# EAGLE library part LED_3X7-SEGMENT (library SinclairScientific)
SINGLE DIGIT NUMERIC DISPLAY 9.9mm (0.39INCH) Source: SC39-11EWA.pdf
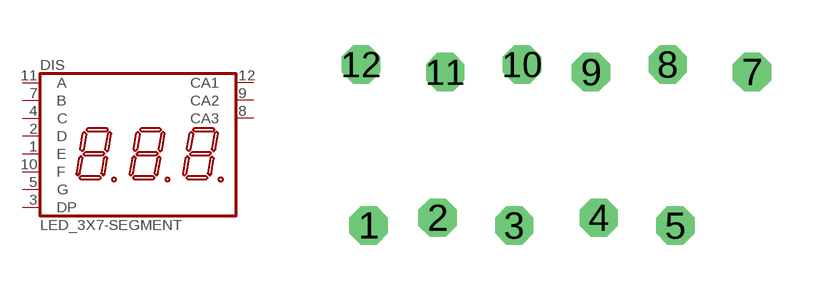
[diagram p4: symbol with the pads of 2352B; footprint 2352B]

Designator prefix DIS

## LED_3X7-SEGMENT  [2352B]
1  E  pas
2  D  pas
3  DP  pas
4  C  pas
5  G  pas
7  B  pas
8  CA3  pas
9  CA2  pas
10  F  pas
11  A  pas
12  CA1  pas

## Footprint 2352B (pad centres in mm)
LED DISPLAY 10-mm 1 character 7 segment, decimal point right
drill 0.762 octagon: 1 -6.223,-2.667; 2 -3.937,-2.413; 3 -1.397,-2.667; 4 1.397,-2.413; 5 3.937,-2.667; 7 6.477,2.413; 8 3.683,2.667; 9 1.143,2.413; 10 -1.143,2.667; 11 -3.683,2.413; 12 -6.477,2.667